# Altium footprint library oled0x96inch.PcbLib: 1 footprints
Each footprint in its own frame and in the unit in brackets; x right, y up, seen from the top. Pads: shape width x height; smd on the part's side, far side on the other; paste and mask are expansions set on the pad; w line width, h text height; cw(c..) or ccw(c..) is an arc to the next point about the centre after c.
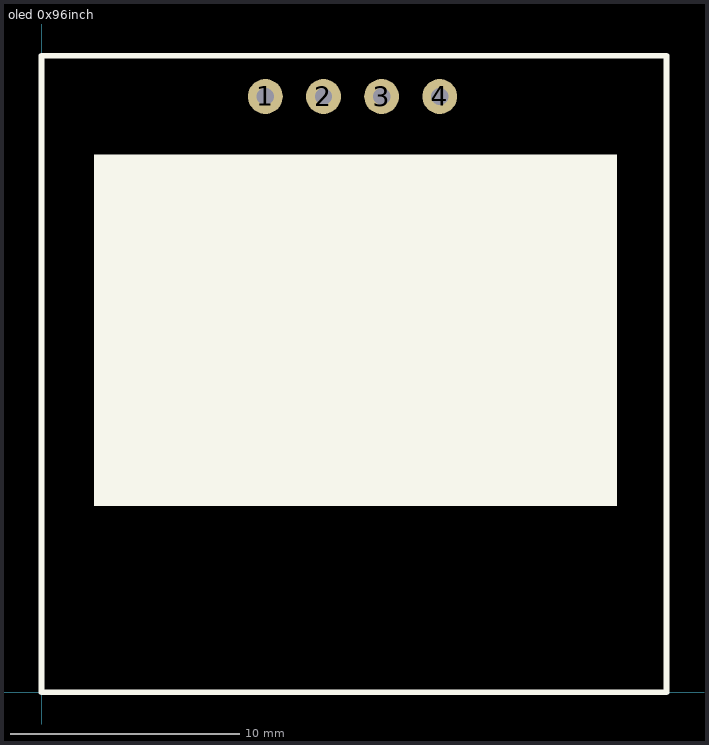
[diagram p0: the footprint, top view; thin cyan lines are the x and y axes]

## oled 0x96inch [mil]
pads (4):
  round 60 hole 30: 1(385,1025) 2(485,1025) 3(585,1025) 4(685,1025)
Top Overlay:
  rectangle: 90,320 990,925
  lines w10: 0,0 0,1095 1075,1095 1075,0 0,0
3D body "User Library-128x64I2COLEDDisplayAdafruit.STEP": height 215.46, standoff -211.54, extent 4.41,8.15 1055.59,1105